# Altium schematic symbol library PSOCsch.SchLib: 1 symbol
Pins are listed as number, name and electrical type; pins without a type are passive.

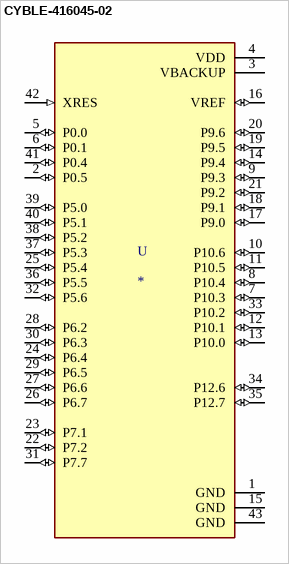
[diagram p0: symbol CYBLE-416045-02]

## CYBLE-416045-02
designator U
Bluetooth Bluetooth v5.0 Transceiver Module 2.4GHz ~ 2.5GHz Integrated, Trace Surface Mount; MP: CYBLE-416045-02; MF: Cypress Semiconductor; SnapEDA_Link: https://www.snapeda.com/parts/CYBLE-416045-02/Teledyne%20e2v/view-part/3593961/?ref=snap; Availability: Unavailable; Price: None; Value: *; Package: SMD-43 Cypress Semiconductor
footprint XCVR_CYBLE-416045-02
pins: 1 GND (power), 2 P0.5 (io), 3 VBACKUP (power), 4 VDD (power), 5 P0.0 (io), 6 P0.1 (io), 7 P10.3 (io), 8 P10.4 (io), 9 P9.3 (io), 10 P10.6 (io), 11 P10.5 (io), 12 P10.1 (io), 13 P10.0 (io), 14 P9.4 (io), 15 GND (power), 16 VREF (io), 17 P9.0 (io), 18 P9.1 (io), 19 P9.5 (io), 20 P9.6 (io), 21 P9.2 (io), 22 P7.2 (io), 23 P7.1 (io), 24 P6.4 (io), 25 P5.4 (io), 26 P6.7 (io), 27 P6.6 (io), 28 P6.2 (io), 29 P6.5 (io), 30 P6.3 (io), 31 P7.7 (io), 32 P5.6 (io), 33 P10.2 (io), 34 P12.6 (io), 35 P12.7 (io), 36 P5.5 (io), 37 P5.3 (io), 38 P5.2 (io), 39 P5.0 (io), 40 P5.1 (io), 41 P0.4 (io), 42 XRES (in), 43 GND (power)